# EAGLE library part BAT54BRW (library wheat)
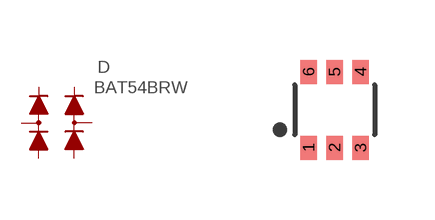
[diagram p157: symbol with the pads of SOT363; footprint SOT363]

Designator prefix D

## BAT54BRW  [SOT363]
1  A1  pas
2  A2  pas
3  C2  pas
4  K2  pas
5  K1  pas
6  C1  pas

## Footprint SOT363 (pad centres in mm)
smd 0.42 x 0.6: 1 -0.65,-0.95; 2 0,-0.95; 3 0.65,-0.95; 4 0.65,0.95; 5 0,0.95; 6 -0.65,0.95